# Altium footprint library NX3215SA-32.768KHZ.PcbLib: 1 footprints
Each footprint in its own frame and in the unit in brackets; x right, y up, seen from the top. Pads: shape width x height; smd on the part's side, far side on the other; paste and mask are expansions set on the pad; w line width, h text height; cw(c..) or ccw(c..) is an arc to the next point about the centre after c.
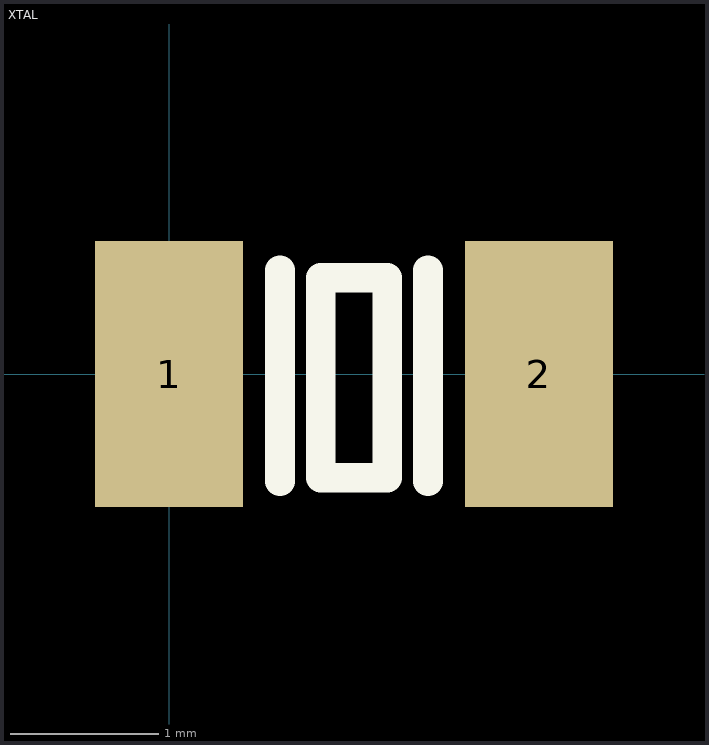
[diagram p0: the footprint, top view; thin cyan lines are the x and y axes]

## XTAL [mm]
pads (2):
  rect 1x1.8 smd: 1(0,0) 2(2.5,0)
Top Overlay:
  lines w0.2: 0.75,-0.725 0.75,0.7 ; 1.75,-0.725 1.75,0.7 ; 1.025,-0.7 1.025,0.65 1.475,0.65 1.475,-0.7 1.025,-0.7
3D body "XTAL - NDK_NX3215SA-32.748khz.STEP": height 0.78, standoff 0, extent -0.282,-0.725 2.732,0.789